# Altium footprint library 370motor.PcbLib: 1 footprints
Each footprint in its own frame and in the unit in brackets; x right, y up, seen from the top. Pads: shape width x height; smd on the part's side, far side on the other; paste and mask are expansions set on the pad; w line width, h text height; cw(c..) or ccw(c..) is an arc to the next point about the centre after c.
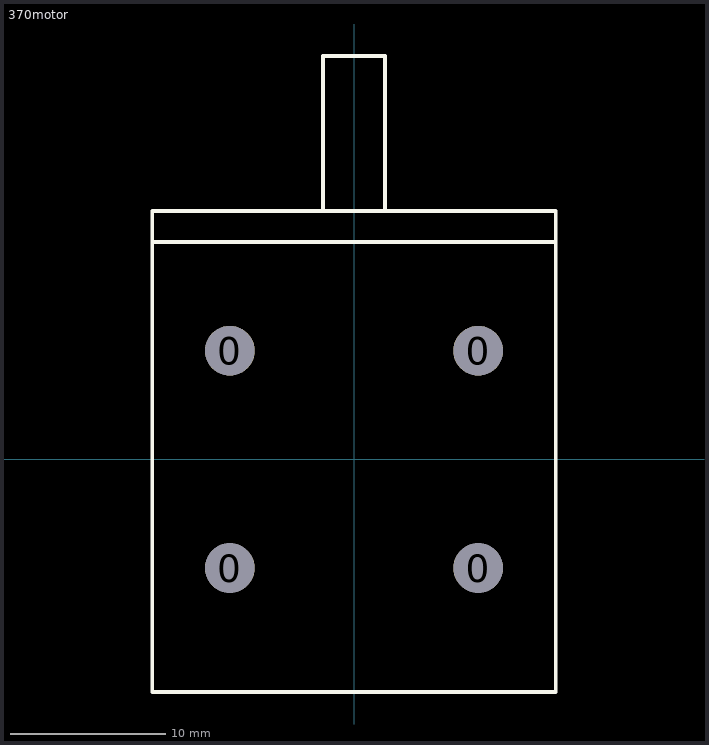
[diagram p0: the footprint, top view; thin cyan lines are the x and y axes]

## 370motor [mm]
pads (4):
  round 3.2 hole 3.2: 0(-8,-7) 0(-8,7) 0(8,-7) 0(8,7)
Top Overlay:
  lines w0.254: -13,14 13,14 ; -2,16 -2,26 2,26 2,16 ; -13,-15 13,-15 13,16 -13,16 -13,-15